# EAGLE library part AD8130/8129 (library Fitch_Eagle_Library)
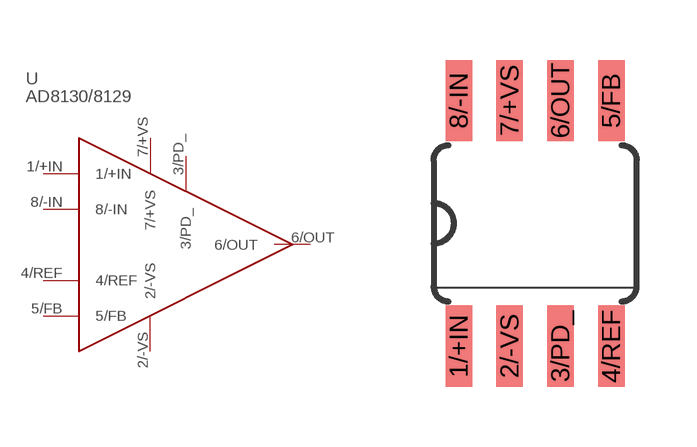
[diagram p15: symbol with the pads of AD8129/8130; footprint AD8129/8130]

Designator prefix -

## AD8130/8129  [AD8129/8130]
1/+IN  1/+IN
2/-VS  2/-VS
3/PD_  3/PD_
4/REF  4/REF
5/FB  5/FB
6/OUT  6/OUT
7/+VS  7/+VS
8/-IN  8/-IN

## Footprint AD8129/8130 (pad centres in mm)
smd 0.66 x 2.032: 1/+IN -1.905,-3.073; 2/-VS -0.635,-3.073; 3/PD_ 0.635,-3.073; 4/REF 1.905,-3.073; 5/FB 1.905,3.073; 6/OUT 0.635,3.073; 7/+VS -0.635,3.073; 8/-IN -1.905,3.073